# Altium schematic symbol library Capacitors.SchLib: 43 symbols (part 2 of 2)
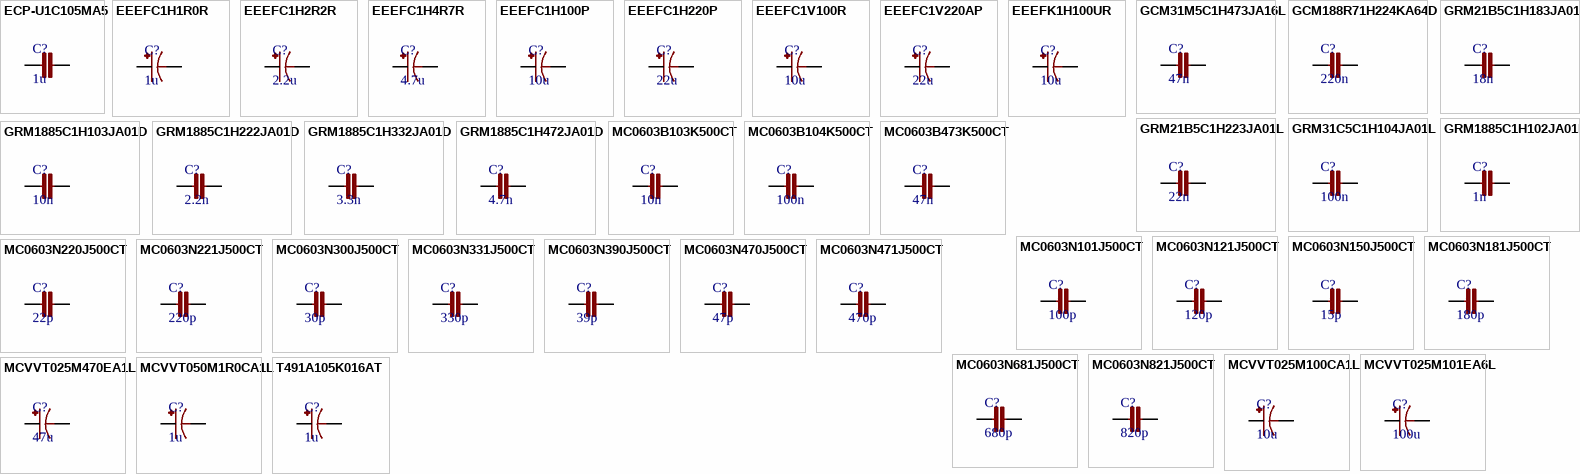
[diagram p2: symbols ECP-U1C105MA5 to T491A105K016AT]

## GRM1885C1H102JA01D
designator C?, comment 1n
CAP CER 1NF 50V C0G/NP0 0603; Manufacturer: Murata; Manufacturer Part Number: GRM1885C1H102JA01D; Material: Ceramic; Tolerance: 5%; Dielectric: C0G; Temperature Coefficient: 30ppm/°C; Insulation Resistance: 10GR; Supplier 1: Farnell; Supplier Part Number 1: 8819920; Stock 1: 138332; Pricing 1: 10 = 0.08650, 100 = 0.03970, 500 = 0.02290, 1000 = 0.01860, 2000 = 0.01690 (EUR); RoHS: Yes; Mount: Surface Mount; Case/Package: 0603; Number of Pins: 2; Case Code (Imperial): 0603; Case Code (Metric): 1608; Dielectric Material: Ceramic; Min Operating Temperature: -55°C; Max Operating Temperature: 125°C; Capacitance: 1nF; Voltage Rating: 50V; Packaging: Tape and Reel; Voltage Rating (DC): 50V; Package Quantity: 1; Termination: SMD/SMT; Voltage: 50V; Length: 1.6mm; Height: 0.8mm; Width: 0.8mm; Thickness: 0.035inch; Depth: 0.8mm; Radiation Hardening: No; REACH SVHC: No SVHC; Lead Free: Lead Free; ComponentLink1URL: https://datasheet.ciiva.com/18184/getdatasheetpartid-153109-18184812.pdf?src-supplier=Verical; ComponentLink1Description: https://datasheet.ciiva.com/18184/getdatasheetpartid-153109-18184812.pdf?src-supplier=Verical; ComponentLink2URL: https://datasheet.ciiva.com/29149/450301-da-01-en-vs-kondensator-0603-29149020.pdf?src-supplier=Conrad; ComponentLink2Description: https://datasheet.ciiva.com/29149/450301-da-01-en-vs-kondensator-0603-29149020.pdf?src-supplier=Conrad; ComponentLink3URL: https://datasheet.ciiva.com/5421/product-5421450.pdf?src-supplier=Mouser; ComponentLink3Description: https://datasheet.ciiva.com/5421/product-5421450.pdf?src-supplier=Mouser; ComponentLink4URL: https://datasheet.ciiva.com/131/partnumbering-e-01-131963.pdf?src-supplier=Digi-Key; ComponentLink4Description: https://datasheet.ciiva.com/131/partnumbering-e-01-131963.pdf?src-supplier=Digi-Key; ComponentLink5URL: https://datasheet.ciiva.com/131/partnumbering-e-01-131964.pdf?src-supplier=Digi-Key; ComponentLink5Description: https://datasheet.ciiva.com/131/partnumbering-e-01-131964.pdf?src-supplier=Digi-Key; ComponentLink6URL: https://datasheet.ciiva.com/6072/4360-6072460.pdf?src-supplier=Farnell; ComponentLink6Description: https://datasheet.ciiva.com/6072/4360-6072460.pdf?src-supplier=Farnell; ComponentLink7URL: https://datasheet.ciiva.com/131/partnumbering-e-01-131965.pdf?src-supplier=Digi-Key; ComponentLink7Description: https://datasheet.ciiva.com/131/partnumbering-e-01-131965.pdf?src-supplier=Digi-Key; ComponentLink8URL: https://datasheet.ciiva.com/7828/1784402-7828893.pdf?src-supplier=Element14; ComponentLink8Description: https://datasheet.ciiva.com/7828/1784402-7828893.pdf?src-supplier=Element14; ComponentLink9URL: https://datasheet.ciiva.com/7828/1784402-7828894.pdf?src-supplier=Element14; ComponentLink9Description: https://datasheet.ciiva.com/7828/1784402-7828894.pdf?src-supplier=Element14; ComponentLink10URL: https://datasheet.ciiva.com/7828/4360-7828895.pdf?src-supplier=Element14; ComponentLink10Description: https://datasheet.ciiva.com/7828/4360-7828895.pdf?src-supplier=Element14; Price: 0.0397
footprint CHIP_0603 (Chip Capacitor, 2-Leads, Body 1.60x0.80mm, IPC Medium Density)
pins: 1, 2

## GRM1885C1H103JA01D
designator C?, comment 10n
CAP CER 10NF 50V C0G/NP0 0603; Manufacturer: Murata; Manufacturer Part Number: GRM1885C1H103JA01D; Material: Ceramic; Tolerance: 5%; Dielectric: C0G; Supplier 1: Farnell; Supplier Part Number 1: 2456107; Stock 1: 99456; Pricing 1: 10 = 0.16600, 100 = 0.07230, 500 = 0.04810, 1000 = 0.04130, 2000 = 0.03640 (EUR); RoHS: Yes; Mount: Surface Mount; Case/Package: 0603; Case Code (Metric): 1608; Case Code (Imperial): 0603; Min Operating Temperature: -55°C; Max Operating Temperature: 125°C; Packaging: Tape and Reel; Package Quantity: 4000; Capacitance: 10nF; Voltage Rating: 50V; Voltage Rating (DC): 50V; Termination: SMD/SMT; Voltage: 50V; Length: 1.6mm; Height: 0.8mm; Width: 0.8mm; Thickness: 0.035inch; Lead Pitch: 0.5mm; Depth: 0.8mm; REACH SVHC: No SVHC; Lead Free: Lead Free; ComponentLink1URL: https://datasheet.ciiva.com/29537/partnumbering-e-01-29537910.pdf?src-supplier=Digi-Key; ComponentLink1Description: https://datasheet.ciiva.com/29537/partnumbering-e-01-29537910.pdf?src-supplier=Digi-Key; ComponentLink2URL: https://datasheet.ciiva.com/41860/partnumbering-e-01-41860759.pdf?src-supplier=Digi-Key; ComponentLink2Description: https://datasheet.ciiva.com/41860/partnumbering-e-01-41860759.pdf?src-supplier=Digi-Key; Price: 0.0723
footprint CHIP_0603 (Chip Capacitor, 2-Leads, Body 1.60x0.80mm, IPC Medium Density)
pins: 1, 2

## GRM1885C1H222JA01D
designator C?, comment 2.2n
CAP CER 2.2NF 50V C0G/NP0 0603; Manufacturer: Murata; Manufacturer Part Number: GRM1885C1H222JA01D; Material: Ceramic; Tolerance: 5%; Dielectric: C0G; Insulation Resistance: 10GR; Temperature Coefficient: 30ppm/°C; Supplier 1: Farnell; Supplier Part Number 1: 8819947; Stock 1: 81117; Pricing 1: 10 = 0.11000, 100 = 0.05180, 500 = 0.04100, 1000 = 0.03510, 2000 = 0.03080 (EUR); RoHS: Yes; Mount: Surface Mount; Case/Package: 0603; Number of Pins: 2; Case Code (Imperial): 0603; Case Code (Metric): 1608; Dielectric Material: Ceramic; Min Operating Temperature: -55°C; Max Operating Temperature: 125°C; Capacitance: 2.2nF; Packaging: Tape and Reel; Voltage Rating: 50V; Voltage Rating (DC): 50V; Package Quantity: 1; Termination: SMD/SMT; Voltage: 50V; Length: 1.6mm; Height: 0.8mm; Width: 0.8mm; Thickness: 0.035inch; Depth: 0.8mm; Radiation Hardening: No; REACH SVHC: No SVHC; Lead Free: Lead Free; ComponentLink1URL: https://datasheet.ciiva.com/11786/0900766b807a1cab-11786840.pdf?src-supplier=RSComponents; ComponentLink1Description: https://datasheet.ciiva.com/11786/0900766b807a1cab-11786840.pdf?src-supplier=RSComponents; ComponentLink2URL: https://datasheet.ciiva.com/3777/1632grm1885c1h222ja0123-3777835.pdf?src-supplier=Arrow; ComponentLink2Description: https://datasheet.ciiva.com/3777/1632grm1885c1h222ja0123-3777835.pdf?src-supplier=Arrow; ComponentLink3URL: https://datasheet.ciiva.com/2989/product-2989459.pdf?src-supplier=Avnet; ComponentLink3Description: https://datasheet.ciiva.com/2989/product-2989459.pdf?src-supplier=Avnet; ComponentLink4URL: https://datasheet.ciiva.com/6031/4360-6031797.pdf?src-supplier=Farnell; ComponentLink4Description: https://datasheet.ciiva.com/6031/4360-6031797.pdf?src-supplier=Farnell; ComponentLink5URL: https://datasheet.ciiva.com/7828/4360-7828918.pdf?src-supplier=Element14; ComponentLink5Description: https://datasheet.ciiva.com/7828/4360-7828918.pdf?src-supplier=Element14; ComponentLink6URL: https://datasheet.ciiva.com/11463/product-11463974.pdf?src-supplier=Avnet; ComponentLink6Description: https://datasheet.ciiva.com/11463/product-11463974.pdf?src-supplier=Avnet; ComponentLink7URL: https://datasheet.ciiva.com/16624/product-16624150.pdf?src-supplier=Avnet+Europe; ComponentLink7Description: https://datasheet.ciiva.com/16624/product-16624150.pdf?src-supplier=Avnet+Europe; ComponentLink8URL: https://datasheet.ciiva.com/7828/1747455-7828919.pdf?src-supplier=Element14; ComponentLink8Description: https://datasheet.ciiva.com/7828/1747455-7828919.pdf?src-supplier=Element14; ComponentLink9URL: https://datasheet.ciiva.com/133/partnumbering-e-01-133576.pdf?src-supplier=Digi-Key; ComponentLink9Description: https://datasheet.ciiva.com/133/partnumbering-e-01-133576.pdf?src-supplier=Digi-Key; ComponentLink10URL: https://datasheet.ciiva.com/7828/1747455-7828920.pdf?src-supplier=Element14; ComponentLink10Description: https://datasheet.ciiva.com/7828/1747455-7828920.pdf?src-supplier=Element14; ComponentLink11URL: https://datasheet.ciiva.com/133/partnumbering-e-01-133577.pdf?src-supplier=Digi-Key; ComponentLink11Description: https://datasheet.ciiva.com/133/partnumbering-e-01-133577.pdf?src-supplier=Digi-Key; ComponentLink12URL: https://datasheet.ciiva.com/133/partnumbering-e-01-133578.pdf?src-supplier=Digi-Key; ComponentLink12Description: https://datasheet.ciiva.com/133/partnumbering-e-01-133578.pdf?src-supplier=Digi-Key; ComponentLink13URL: https://datasheet.ciiva.com/29241/450664-da-01-en-vs-kondensator-0603-29241770.pdf?src-supplier=Conrad; ComponentLink13Description: https://datasheet.ciiva.com/29241/450664-da-01-en-vs-kondensator-0603-29241770.pdf?src-supplier=Conrad; Price: 0.0217
footprint CHIP_0603 (Chip Capacitor, 2-Leads, Body 1.60x0.80mm, IPC Medium Density)
pins: 1, 2

## GRM1885C1H332JA01D
designator C?, comment 3.3n
CAP CER 3.3NF 50V C0G/NP0 0603; Manufacturer: Murata; Manufacturer Part Number: GRM1885C1H332JA01D; Material: Ceramic; Tolerance: 5%; Dielectric: C0G; Supplier 1: Farnell; Supplier Part Number 1: 2470483; Stock: 11093; Pricing: 10=0.141, 100=0.0673, 500=0.038, 1000=0.0309, 2000=0.0305 (EUR); RoHS: Yes; Mount: Surface Mount; Case/Package: 0603; Case Code (Metric): 1608; Case Code (Imperial): 0603; Min Operating Temperature: -55°C; Max Operating Temperature: 125°C; Capacitance: 3.3nF; Voltage Rating: 50V; Packaging: Tape and Reel; Package Quantity: 4000; Termination: SMD/SMT; Voltage: 50V; Voltage Rating (DC): 50V; Length: 1.6mm; Height: 0.8mm; Width: 0.031inch; Thickness: 0.035inch; Depth: 0.8mm; Radiation Hardening: No; REACH SVHC: No SVHC; Lead Free: Lead Free; ComponentLink1URL: https://datasheet.ciiva.com/6270/product-6270530.pdf?src-supplier=Digi-Key; ComponentLink1Description: https://datasheet.ciiva.com/6270/product-6270530.pdf?src-supplier=Digi-Key; ComponentLink2URL: https://datasheet.ciiva.com/29202/450783-da-01-en-vs-kondensator-0603-29202805.pdf?src-supplier=Conrad; ComponentLink2Description: https://datasheet.ciiva.com/29202/450783-da-01-en-vs-kondensator-0603-29202805.pdf?src-supplier=Conrad; ComponentLink3URL: https://datasheet.ciiva.com/5417/product-5417082.pdf?src-supplier=Mouser; ComponentLink3Description: https://datasheet.ciiva.com/5417/product-5417082.pdf?src-supplier=Mouser; Price: 0.0676
footprint CHIP_0603 (Chip Capacitor, 2-Leads, Body 1.60x0.80mm, IPC Medium Density)
pins: 1, 2

## GRM1885C1H472JA01D
designator C?, comment 4.7n
CAP CER 4.7NF 50V C0G/NP0 0603; Manufacturer: Murata; Manufacturer Part Number: GRM1885C1H472JA01D; Material: Ceramic; Tolerance: 5%; Dielectric: C0G; Supplier 1: Farnell; Supplier Part Number 1: 2611918; Stock 1: 86558; Pricing 1: 10 = 0.15000, 100 = 0.07160, 500 = 0.04270, 1000 = 0.03660 (EUR); RoHS: Yes; Mount: Surface Mount; Case/Package: 0603; Case Code (Metric): 1608; Case Code (Imperial): 0603; Min Operating Temperature: -55°C; Max Operating Temperature: 125°C; Packaging: Tape and Reel; Package Quantity: 4000; Capacitance: 4.7nF; Voltage Rating: 50V; Voltage Rating (DC): 50V; Termination: SMD/SMT; Length: 1.6mm; Height: 0.8mm; Width: 0.8mm; Thickness: 0.035inch; REACH SVHC: No SVHC; Lead Free: Lead Free; ComponentLink1URL: https://datasheet.ciiva.com/29537/partnumbering-e-01-29537942.pdf?src-supplier=Digi-Key; ComponentLink1Description: https://datasheet.ciiva.com/29537/partnumbering-e-01-29537942.pdf?src-supplier=Digi-Key; ComponentLink2URL: https://datasheet.ciiva.com/41860/partnumbering-e-01-41860760.pdf?src-supplier=Digi-Key; ComponentLink2Description: https://datasheet.ciiva.com/41860/partnumbering-e-01-41860760.pdf?src-supplier=Digi-Key; Price: 0.0716
footprint CHIP_0603 (Chip Capacitor, 2-Leads, Body 1.60x0.80mm, IPC Medium Density)
pins: 1, 2

## MC0603B103K500CT
designator C?, comment 10n
CAP CER 10NF 50V X7R 0603; Manufacturer: Multicomp; Manufacturer Part Number: MC0603B103K500CT; Tolerance: 10%; Supplier 1: Farnell; Supplier Part Number 1: 1759102; RoHS: Yes; Category: Ceramic Capacitors; Stock 1: 112880; Case/Package: 0603; Number of Pins: 2; Case Code (Metric): 1608; Case Code (Imperial): 0603; Min Operating Temperature: -55°C; Max Operating Temperature: 125°C; Voltage Rating (DC): 50V; Dielectric: X7R; Capacitance: 10nF; Voltage Rating: 50V; Packaging: Tape and Reel; Width: 0.8mm; REACH SVHC: Unknown; ComponentLink1URL: https://datasheet.ciiva.com/22675/1901289-22675356.pdf?src-supplier=Element14; ComponentLink1Description: https://datasheet.ciiva.com/22675/1901289-22675356.pdf?src-supplier=Element14; ComponentLink2URL: https://datasheet.ciiva.com/22675/1901289-22675357.pdf?src-supplier=Element14; ComponentLink2Description: https://datasheet.ciiva.com/22675/1901289-22675357.pdf?src-supplier=Element14; Price: 0.0147
footprint CHIP_0603 (Chip Capacitor, 2-Leads, Body 1.60x0.80mm, IPC Medium Density)
pins: 1, 2

## MC0603B104K500CT
designator C?, comment 100n
CAP CER 100NF 50V X7R 0603; Manufacturer: Multicomp; Manufacturer Part Number: MC0603B104K500CT; Tolerance: 10%; Supplier 1: Farnell; Supplier Part Number 1: 1759122; Stock 1: 1057763; RoHS: Yes; Case/Package: 0603; Number of Pins: 2; Case Code (Metric): 1608; Case Code (Imperial): 0603; Min Operating Temperature: -55°C; Max Operating Temperature: 125°C; Packaging: Cut Tape; Voltage Rating: 50V; Capacitance: 100nF; Dielectric: X7R; Voltage Rating (DC): 50V; REACH SVHC: Unknown; ComponentLink1URL: https://datasheet.ciiva.com/22686/1901289-22686278.pdf?src-supplier=Element14; ComponentLink1Description: https://datasheet.ciiva.com/22686/1901289-22686278.pdf?src-supplier=Element14; ComponentLink2URL: https://datasheet.ciiva.com/22686/1901289-22686279.pdf?src-supplier=Element14; ComponentLink2Description: https://datasheet.ciiva.com/22686/1901289-22686279.pdf?src-supplier=Element14; ComponentLink3URL: https://datasheet.ciiva.com/22648/1901289-22648411.pdf?src-supplier=Element14; ComponentLink3Description: https://datasheet.ciiva.com/22648/1901289-22648411.pdf?src-supplier=Element14; Price: 0.0458
footprint CHIP_0603 (Chip Capacitor, 2-Leads, Body 1.60x0.80mm, IPC Medium Density)
pins: 1, 2

## MC0603B473K500CT
designator C?, comment 47n
CAP CER 47NF 50V X7R 0603; Manufacturer: Multicomp; Manufacturer Part Number: MC0603B473K500CT; Tolerance: 10%; Supplier 1: Farnell; Supplier Part Number 1: 1759116; Stock: 25480; Pricing: 10=0.0277, 100=0.0224, 500=0.0139, 1000=0.011, 2000=0.0101 (EUR); RoHS: Yes; Case/Package: 0603; Number of Pins: 2; Case Code (Metric): 1608; Case Code (Imperial): 0603; Min Operating Temperature: -55°C; Max Operating Temperature: 125°C; Packaging: Cut Tape; Capacitance: 47nF; Voltage Rating: 50V; Dielectric: X7R; Voltage Rating (DC): 50V; REACH SVHC: Unknown; ComponentLink1URL: https://datasheet.ciiva.com/7818/ta-1098-7818535.pdf?src-supplier=Element14; ComponentLink1Description: https://datasheet.ciiva.com/7818/ta-1098-7818535.pdf?src-supplier=Element14; ComponentLink2URL: https://datasheet.ciiva.com/6161/ta-1098-6161001.pdf?src-supplier=Farnell; ComponentLink2Description: https://datasheet.ciiva.com/6161/ta-1098-6161001.pdf?src-supplier=Farnell; ComponentLink3URL: https://datasheet.ciiva.com/22648/1901289-22648457.pdf?src-supplier=Element14; ComponentLink3Description: https://datasheet.ciiva.com/22648/1901289-22648457.pdf?src-supplier=Element14; ComponentLink4URL: https://datasheet.ciiva.com/22648/1901289-22648459.pdf?src-supplier=Element14; ComponentLink4Description: https://datasheet.ciiva.com/22648/1901289-22648459.pdf?src-supplier=Element14; ComponentLink5URL: https://datasheet.ciiva.com/22683/1901289-22683835.pdf?src-supplier=Element14; ComponentLink5Description: https://datasheet.ciiva.com/22683/1901289-22683835.pdf?src-supplier=Element14; Price: 0.0201
footprint CHIP_0603 (Chip Capacitor, 2-Leads, Body 1.60x0.80mm, IPC Medium Density)
pins: 1, 2

## MC0603N101J500CT
designator C?, comment 100p
CAP CER 100PF 50V C0G/NP0 0603; Manufacturer: Multicomp; Manufacturer Part Number: MC0603N101J500CT; Tolerance: 5%; Dielectric: C0G; Supplier 1: Farnell; Supplier Part Number 1: 1759066; Stock: 55061; Pricing: 10=0.0241, 100=0.0195, 500=0.0139, 1000=0.012, 2000=0.0095 (EUR); RoHS: Yes; Case Code (Metric): 1608; Case Code (Imperial): 0603; Min Operating Temperature: -55°C; Max Operating Temperature: 125°C; Voltage Rating: 50V; Packaging: Cut Tape; Capacitance: 100pF; Voltage Rating (DC): 50V; REACH SVHC: No SVHC; ComponentLink1URL: http://www.farnell.com/datasheets/1901289.pdf?src-supplier=Farnell; ComponentLink1Description: http://www.farnell.com/datasheets/1901289.pdf?src-supplier=Farnell; ComponentLink2URL: http://www.farnell.com/datasheets/1901289.pdf?src-supplier=Element14; ComponentLink2Description: http://www.farnell.com/datasheets/1901289.pdf?src-supplier=Element14; ComponentLink3URL: http://www.farnell.com/datasheets/1870456.pdf?src-supplier=Element14; ComponentLink3Description: http://www.farnell.com/datasheets/1870456.pdf?src-supplier=Element14; ComponentLink4URL: http://www.farnell.com/datasheets/1901289.pdf?src-supplier=Newark; ComponentLink4Description: http://www.farnell.com/datasheets/1901289.pdf?src-supplier=Newark; Price: 0.0197
footprint CHIP_0603 (Chip Capacitor, 2-Leads, Body 1.60x0.80mm, IPC Medium Density)
pins: 1, 2

## MC0603N121J500CT
designator C?, comment 120p
CAP CER 120PF 50V C0G/NP0 0603; Manufacturer: Multicomp; Manufacturer Part Number: MC0603N121J500CT; Tolerance: 5%; Dielectric: C0G; Temperature Coefficient: 30ppm/°C; Supplier 1: Farnell; Supplier Part Number 1: 1759067; Stock: 19090; Pricing: 10=0.0363, 100=0.0246, 500=0.0182, 1000=0.0144, 2000=0.0119 (EUR); RoHS: Yes; Case/Package: 0603; Number of Pins: 2; Case Code (Metric): 1608; Case Code (Imperial): 0603; Min Operating Temperature: -55°C; Max Operating Temperature: 125°C; Capacitance: 120pF; Voltage Rating: 50V; Packaging: Cut Tape; Voltage Rating (DC): 50V; Width: 0.8mm; REACH SVHC: Unknown; ComponentLink1URL: https://datasheet.ciiva.com/7751/ta-1098-7751430.pdf?src-supplier=Element14; ComponentLink1Description: https://datasheet.ciiva.com/7751/ta-1098-7751430.pdf?src-supplier=Element14; ComponentLink2URL: https://datasheet.ciiva.com/22648/1901289-22648473.pdf?src-supplier=Element14; ComponentLink2Description: https://datasheet.ciiva.com/22648/1901289-22648473.pdf?src-supplier=Element14; ComponentLink3URL: https://datasheet.ciiva.com/22648/1901289-22648474.pdf?src-supplier=Element14; ComponentLink3Description: https://datasheet.ciiva.com/22648/1901289-22648474.pdf?src-supplier=Element14; ComponentLink4URL: https://datasheet.ciiva.com/41653/ta-1098-41653965.pdf?src-supplier=Farnell; ComponentLink4Description: https://datasheet.ciiva.com/41653/ta-1098-41653965.pdf?src-supplier=Farnell; Price: 0.0246
footprint CHIP_0603 (Chip Capacitor, 2-Leads, Body 1.60x0.80mm, IPC Medium Density)
pins: 1, 2

## MC0603N150J500CT
designator C?, comment 15p
CAP CER 15PF 50V C0G/NP0 0603; Manufacturer: Multicomp; Manufacturer Part Number: MC0603N150J500CT; Tolerance: 5%; Dielectric: C0G; Temperature Coefficient: 30ppm/°C; Supplier 1: Farnell; Supplier Part Number 1: 1759055; RoHS: Yes; Category: Ceramic Capacitors; Stock: 62089; Pricing: 10=0.04660, 100=0.03490, 500=0.02000, 1000=0.01400, 2000=0.01240 (EUR); Case/Package: 0603; Number of Pins: 2; Case Code (Metric): 1608; Case Code (Imperial): 0603; Min Operating Temperature: -55°C; Max Operating Temperature: 125°C; Capacitance: 15pF; Packaging: Tape and Reel; Voltage Rating: 50V; Voltage Rating (DC): 50V; Width: 0.8mm; REACH SVHC: Unknown; ComponentLink1URL: https://datasheet.ciiva.com/22675/1901289-22675815.pdf?src-supplier=Element14; ComponentLink1Description: https://datasheet.ciiva.com/22675/1901289-22675815.pdf?src-supplier=Element14; ComponentLink2URL: https://datasheet.ciiva.com/22675/1901289-22675816.pdf?src-supplier=Element14; ComponentLink2Description: https://datasheet.ciiva.com/22675/1901289-22675816.pdf?src-supplier=Element14; ComponentLink3URL: https://datasheet.ciiva.com/22648/1901289-22648477.pdf?src-supplier=Element14; ComponentLink3Description: https://datasheet.ciiva.com/22648/1901289-22648477.pdf?src-supplier=Element14; Price: 0.0356
footprint CHIP_0603 (Chip Capacitor, 2-Leads, Body 1.60x0.80mm, IPC Medium Density)
pins: 1, 2

## MC0603N181J500CT
designator C?, comment 180p
CAP CER 180PF 50V C0G/NP0 0603; Manufacturer: Multicomp; Manufacturer Part Number: MC0603N181J500CT; Tolerance: 5%; Dielectric: C0G; Temperature Coefficient: 30ppm/°C; Supplier 1: Farnell; Supplier Part Number 1: 1759069; RoHS: Yes; Category: Ceramic Capacitors; Stock: 9384; Pricing: 10=0.05250, 100=0.03150, 500=0.02250, 1000=0.01580, 2000=0.01210 (EUR); Case/Package: 0603; Number of Pins: 2; Case Code (Imperial): 0603; Case Code (Metric): 1608; Min Operating Temperature: -55°C; Max Operating Temperature: 125°C; Capacitance: 180pF; Voltage Rating: 50V; Packaging: Tape and Reel; Voltage Rating (DC): 50V; Width: 0.8mm; REACH SVHC: Unknown; ComponentLink1URL: http://www.farnell.com/datasheets/1901289.pdf?src-supplier=Farnell; ComponentLink1Description: http://www.farnell.com/datasheets/1901289.pdf?src-supplier=Farnell; ComponentLink2URL: http://www.farnell.com/datasheets/1901289.pdf?src-supplier=Element14; ComponentLink2Description: http://www.farnell.com/datasheets/1901289.pdf?src-supplier=Element14
footprint CHIP_0603 (Chip Capacitor, 2-Leads, Body 1.60x0.80mm, IPC Medium Density)
pins: 1, 2

## MC0603N220J500CT
designator C?, comment 22p
CAP CER 22PF 50V C0G/NP0 0603; Manufacturer: Multicomp; Manufacturer Part Number: MC0603N220J500CT; Temperature Coefficient: 30ppm/°C; Dielectric: C0G; Tolerance: 5%; Supplier 1: Farnell; Supplier Part Number 1: 1759057; RoHS: Yes; Category: Ceramic Capacitors; Stock: 53792; Case/Package: 0603; Number of Pins: 2; Case Code (Imperial): 0603; Case Code (Metric): 1608; Min Operating Temperature: -55°C; Max Operating Temperature: 125°C; Voltage Rating (DC): 50V; Capacitance: 22pF; Voltage Rating: 50V; Packaging: Cut Tape; Width: 0.8mm; REACH SVHC: Unknown; ComponentLink1URL: https://datasheet.ciiva.com/22648/1901289-22648486.pdf?src-supplier=Element14; ComponentLink1Description: https://datasheet.ciiva.com/22648/1901289-22648486.pdf?src-supplier=Element14; Price: 0.024
footprint CHIP_0603 (Chip Capacitor, 2-Leads, Body 1.60x0.80mm, IPC Medium Density)
pins: 1, 2

## MC0603N221J500CT
designator C?, comment 220p
CAP CER 220PF 50V C0G/NP0 0603; Manufacturer: Multicomp; Manufacturer Part Number: MC0603N221J500CT; Tolerance: 5%; Dielectric: C0G; Supplier 1: Farnell; Supplier Part Number 1: 1759071; Stock: 17812; Pricing: 10=0.027, 100=0.0219, 500=0.0135, 1000=0.0107, 2000=0.0098 (EUR); RoHS: Yes; Case/Package: 0603; Number of Pins: 2; Case Code (Metric): 1608; Case Code (Imperial): 0603; Min Operating Temperature: -55°C; Max Operating Temperature: 125°C; Capacitance: 220pF; Packaging: Cut Tape; Voltage Rating: 50V; Voltage Rating (DC): 50V; REACH SVHC: Unknown; ComponentLink1URL: https://datasheet.ciiva.com/22648/1901289-22648489.pdf?src-supplier=Element14; ComponentLink1Description: https://datasheet.ciiva.com/22648/1901289-22648489.pdf?src-supplier=Element14; ComponentLink2URL: https://datasheet.ciiva.com/22675/1901289-22675354.pdf?src-supplier=Element14; ComponentLink2Description: https://datasheet.ciiva.com/22675/1901289-22675354.pdf?src-supplier=Element14; ComponentLink3URL: https://datasheet.ciiva.com/22675/1901289-22675355.pdf?src-supplier=Element14; ComponentLink3Description: https://datasheet.ciiva.com/22675/1901289-22675355.pdf?src-supplier=Element14; Price: 0.0192
footprint CHIP_0603 (Chip Capacitor, 2-Leads, Body 1.60x0.80mm, IPC Medium Density)
pins: 1, 2

## MC0603N300J500CT
designator C?, comment 30p
CAP CER 30PF 50V C0G/NP0 0603; Manufacturer: Multicomp; Manufacturer Part Number: MC0603N300J500CT; Dielectric: C0G; Tolerance: 5%; Supplier 1: Farnell; Supplier Part Number 1: 2627466; Stock: 0; Pricing: 10=0.0361, 100=0.0245, 500=0.018, 1000=0.0143, 2000=0.0118 (EUR); RoHS: No; Case Code (Metric): 1608; Case Code (Imperial): 0603; Min Operating Temperature: -55°C; Max Operating Temperature: 125°C; Capacitance: 30pF; Voltage Rating: 50V; Packaging: Cut Tape; Voltage Rating (DC): 50V; REACH SVHC: No SVHC; ComponentLink1URL: http://www.farnell.com/datasheets/2117933.pdf?src-supplier=Farnell; ComponentLink1Description: http://www.farnell.com/datasheets/2117933.pdf?src-supplier=Farnell; ComponentLink2URL: http://www.farnell.com/datasheets/2117933.pdf?src-supplier=Element14; ComponentLink2Description: http://www.farnell.com/datasheets/2117933.pdf?src-supplier=Element14; ComponentLink3URL: http://www.farnell.com/datasheets/2117900.pdf?src-supplier=Element14; ComponentLink3Description: http://www.farnell.com/datasheets/2117900.pdf?src-supplier=Element14; Price: 0.0251
footprint CHIP_0603 (Chip Capacitor, 2-Leads, Body 1.60x0.80mm, IPC Medium Density)
pins: 1, 2

## MC0603N331J500CT
designator C?, comment 330p
CAP CER 330PF 50V C0G/NP0 0603; Manufacturer: Multicomp; Manufacturer Part Number: MC0603N331J500CT; Tolerance: 5%; Temperature Coefficient: 30ppm/°C; Dielectric: C0G; Supplier 1: Farnell; Supplier Part Number 1: 1759076; RoHS: Yes; Category: Ceramic Capacitors; Stock: 24473; Pricing: 10=0.04000, 100=0.03000, 500=0.01710, 1000=0.01200, 2000=0.01110 (EUR); Case/Package: 0603; Number of Pins: 2; Case Code (Metric): 1608; Case Code (Imperial): 0603; Min Operating Temperature: -55°C; Max Operating Temperature: 125°C; Capacitance: 330pF; Voltage Rating: 50V; Packaging: Cut Tape; Voltage Rating (DC): 50V; Width: 0.8mm; REACH SVHC: Unknown; ComponentLink1URL: https://datasheet.ciiva.com/22675/ta-1098-22675385.pdf?src-supplier=Element14; ComponentLink1Description: https://datasheet.ciiva.com/22675/ta-1098-22675385.pdf?src-supplier=Element14; ComponentLink2URL: https://datasheet.ciiva.com/22675/1901289-22675319.pdf?src-supplier=Element14; ComponentLink2Description: https://datasheet.ciiva.com/22675/1901289-22675319.pdf?src-supplier=Element14
footprint CHIP_0603 (Chip Capacitor, 2-Leads, Body 1.60x0.80mm, IPC Medium Density)
pins: 1, 2

## MC0603N390J500CT
designator C?, comment 39p
CAP CER 39PF 50V C0G/NP0 0603; Manufacturer: Multicomp; Manufacturer Part Number: MC0603N390J500CT; Temperature Coefficient: 30ppm/°C; Dielectric: C0G; Tolerance: 5%; Supplier 1: Farnell; Supplier Part Number 1: 1759060; RoHS: Yes; Category: Ceramic Capacitors; Stock: 6461; Pricing: 10=0.03890, 100=0.02920, 500=0.01670, 1000=0.01170, 2000=0.01080 (EUR); Case/Package: 0603; Number of Pins: 2; Case Code (Imperial): 0603; Case Code (Metric): 1608; Min Operating Temperature: -55°C; Max Operating Temperature: 125°C; Capacitance: 39pF; Packaging: Cut Tape; Voltage Rating: 50V; Voltage Rating (DC): 50V; Width: 0.8mm; REACH SVHC: Unknown; ComponentLink1URL: https://datasheet.ciiva.com/22648/1901289-22648501.pdf?src-supplier=Element14; ComponentLink1Description: https://datasheet.ciiva.com/22648/1901289-22648501.pdf?src-supplier=Element14; ComponentLink2URL: https://datasheet.ciiva.com/22675/1901289-22675703.pdf?src-supplier=Element14; ComponentLink2Description: https://datasheet.ciiva.com/22675/1901289-22675703.pdf?src-supplier=Element14
footprint CHIP_0603 (Chip Capacitor, 2-Leads, Body 1.60x0.80mm, IPC Medium Density)
pins: 1, 2

## MC0603N470J500CT
designator C?, comment 47p
CAP CER 47PF 50V C0G/NP0 0603; Manufacturer: Multicomp; Manufacturer Part Number: MC0603N470J500CT; Tolerance: 5%; Dielectric: C0G; Temperature Coefficient: 30ppm/°C; Supplier 1: Farnell; Supplier Part Number 1: 1759062; Stock: 148629; Pricing: 10=0.0246, 100=0.0199, 500=0.0123, 1000=0.0097, 2000=0.0089 (EUR); RoHS: Yes; Case/Package: 0603; Number of Pins: 2; Case Code (Metric): 1608; Case Code (Imperial): 0603; Min Operating Temperature: -55°C; Max Operating Temperature: 125°C; Packaging: Tape and Reel; Voltage Rating: 50V; Capacitance: 47pF; Voltage Rating (DC): 50V; Width: 0.8mm; REACH SVHC: Unknown; ComponentLink1URL: https://datasheet.ciiva.com/22648/1901289-22648503.pdf?src-supplier=Element14; ComponentLink1Description: https://datasheet.ciiva.com/22648/1901289-22648503.pdf?src-supplier=Element14; ComponentLink2URL: https://datasheet.ciiva.com/22682/1901289-22682812.pdf?src-supplier=Element14; ComponentLink2Description: https://datasheet.ciiva.com/22682/1901289-22682812.pdf?src-supplier=Element14; ComponentLink3URL: https://datasheet.ciiva.com/22682/1901289-22682813.pdf?src-supplier=Element14; ComponentLink3Description: https://datasheet.ciiva.com/22682/1901289-22682813.pdf?src-supplier=Element14; Price: 0.02
footprint CHIP_0603 (Chip Capacitor, 2-Leads, Body 1.60x0.80mm, IPC Medium Density)
pins: 1, 2

## MC0603N471J500CT
designator C?, comment 470p
CAP CER 470PF 50V C0G/NP0 0603; Manufacturer: Multicomp; Manufacturer Part Number: MC0603N471J500CT; Tolerance: 5%; Dielectric: C0G; Temperature Coefficient: 30ppm/°C; Supplier 1: Farnell; Supplier Part Number 1: 1759080; Stock: 33267; Pricing: 10=0.0522, 100=0.0354, 500=0.0206, 1000=0.0189, 2000=0.0171 (EUR); RoHS: Yes; Case/Package: 0603; Number of Pins: 2; Case Code (Metric): 1608; Case Code (Imperial): 0603; Min Operating Temperature: -55°C; Max Operating Temperature: 125°C; Capacitance: 470pF; Voltage Rating: 50V; Packaging: Cut Tape; Voltage Rating (DC): 50V; Width: 0.8mm; REACH SVHC: Unknown; ComponentLink1URL: https://datasheet.ciiva.com/22648/1901289-22648504.pdf?src-supplier=Element14; ComponentLink1Description: https://datasheet.ciiva.com/22648/1901289-22648504.pdf?src-supplier=Element14; ComponentLink2URL: https://datasheet.ciiva.com/22675/1901289-22675320.pdf?src-supplier=Element14; ComponentLink2Description: https://datasheet.ciiva.com/22675/1901289-22675320.pdf?src-supplier=Element14; ComponentLink3URL: https://datasheet.ciiva.com/22648/1901289-22648505.pdf?src-supplier=Element14; ComponentLink3Description: https://datasheet.ciiva.com/22648/1901289-22648505.pdf?src-supplier=Element14; Price: 0.035
footprint CHIP_0603 (Chip Capacitor, 2-Leads, Body 1.60x0.80mm, IPC Medium Density)
pins: 1, 2

## MC0603N681J500CT
designator C?, comment 680p
CAP CER 680PF 50V C0G/NP0 0603; Manufacturer: Multicomp; Manufacturer Part Number: MC0603N681J500CT; Tolerance: 5%; Dielectric: C0G; Temperature Coefficient: 30ppm/°C; Supplier 1: Farnell; Supplier Part Number 1: 1759084; Stock: 270; Pricing: 10=0.0543, 100=0.0368, 500=0.0215, 1000=0.0197, 2000=0.0178 (EUR); RoHS: Yes; Case/Package: 0603; Number of Pins: 2; Case Code (Metric): 1608; Case Code (Imperial): 0603; Min Operating Temperature: -55°C; Max Operating Temperature: 125°C; Capacitance: 680pF; Voltage Rating: 50V; Packaging: Cut Tape; Voltage Rating (DC): 50V; Width: 0.8mm; REACH SVHC: Unknown; ComponentLink1URL: http://www.farnell.com/datasheets/1901289.pdf?src-supplier=Farnell; ComponentLink1Description: http://www.farnell.com/datasheets/1901289.pdf?src-supplier=Farnell; ComponentLink2URL: http://www.farnell.com/datasheets/1901289.pdf?src-supplier=Element14; ComponentLink2Description: http://www.farnell.com/datasheets/1901289.pdf?src-supplier=Element14; Price: 0.0248
footprint CHIP_0603 (Chip Capacitor, 2-Leads, Body 1.60x0.80mm, IPC Medium Density)
pins: 1, 2

## MC0603N821J500CT
designator C?, comment 820p
CAP CER 820PF 50V C0G/NP0 0603; Manufacturer: Multicomp; Manufacturer Part Number: MC0603N821J500CT; Temperature Coefficient: 30ppm/°C; Dielectric: C0G; Tolerance: 5%; Supplier 1: Farnell; Supplier Part Number 1: 1759087; RoHS: Yes; Category: Ceramic Capacitors; Stock: 9450; Pricing: 10=0.08560, 100=0.05140, 500=0.02570, 1000=0.02280, 2000=0.01980 (EUR); Case/Package: 0603; Number of Pins: 2; Case Code (Metric): 1608; Case Code (Imperial): 0603; Min Operating Temperature: -55°C; Max Operating Temperature: 125°C; Voltage Rating (DC): 50V; Capacitance: 820pF; Voltage Rating: 50V; Packaging: Tape and Reel; Width: 0.8mm; REACH SVHC: Unknown; ComponentLink1URL: https://datasheet.ciiva.com/22648/1901289-22648517.pdf?src-supplier=Element14; ComponentLink1Description: https://datasheet.ciiva.com/22648/1901289-22648517.pdf?src-supplier=Element14; ComponentLink2URL: https://datasheet.ciiva.com/22648/1901289-22648518.pdf?src-supplier=Element14; ComponentLink2Description: https://datasheet.ciiva.com/22648/1901289-22648518.pdf?src-supplier=Element14; ComponentLink3URL: https://datasheet.ciiva.com/22684/1901289-22684006.pdf?src-supplier=Element14; ComponentLink3Description: https://datasheet.ciiva.com/22684/1901289-22684006.pdf?src-supplier=Element14
footprint CHIP_0603 (Chip Capacitor, 2-Leads, Body 1.60x0.80mm, IPC Medium Density)
pins: 1, 2

## MCVVT025M100CA1L
designator C?, comment 10u
CAP ALUM 10UF 25V SMD; Manufacturer: Multicomp; Manufacturer Part Number: MCVVT025M100CA1L; Life (Hours): 2000Hour; Ripple Current (AC): 4mA; Supplier 1: Farnell; Supplier Part Number 1: 2611368; Stock: 2773; Pricing: 5=0.0897, 50=0.0592, 250=0.0457, 500=0.0388, 1000=0.0338 (EUR); RoHS: No; Min Operating Temperature: -55°C; Max Operating Temperature: 105°C; Capacitance: 10uF; Voltage Rating: 25V; Packaging: Cut Tape; Voltage Rating (DC): 25V; Diameter: 4mm; Height: 5.4mm; REACH SVHC: No SVHC; ComponentLink1URL: http://www.farnell.com/datasheets/2151198.pdf?src-supplier=Element14; ComponentLink1Description: http://www.farnell.com/datasheets/2151198.pdf?src-supplier=Element14; Price: 0.0592
footprint CAPAE_B (Aluminum Electrolytic Capacitor, Body 4.30x4.30x5.40mm, IPC Low Density)
pins: +, -

## MCVVT025M101EA6L
designator C?, comment 100u
CAP ALUM 100UF 25V SMD; Manufacturer: Multicomp; Manufacturer Part Number: MCVVT025M101EA6L; Life (Hours): 2000Hour; Ripple Current (AC): 6.3mA; Supplier 1: Farnell; Supplier Part Number 1: 2611370; Stock: 1063; Pricing: 1=0.157, 50=0.104, 100=0.0932, 250=0.0801, 500=0.0681 (EUR); RoHS: No; Min Operating Temperature: -55°C; Max Operating Temperature: 105°C; Capacitance: 100uF; Voltage Rating: 25V; Packaging: Tape and Reel; Voltage Rating (DC): 25V; Diameter: 6.3mm; Height: 7.7mm; REACH SVHC: No SVHC; ComponentLink1URL: http://www.farnell.com/datasheets/2151198.pdf?src-supplier=Element14; ComponentLink1Description: http://www.farnell.com/datasheets/2151198.pdf?src-supplier=Element14; Price: 0.102
footprint CAPAE_D (Aluminum Electrolytic Capacitor, Body 6.60x6.60x5.40mm, IPC Low Density)
pins: +, -

## MCVVT025M470EA1L
designator C?, comment 47u
CAP ALUM 47UF 25V SMD; Manufacturer: Multicomp; Manufacturer Part Number: MCVVT025M470EA1L; Life (Hours): 2000Hour; Ripple Current (AC): 6.3mA; Supplier 1: Farnell; Supplier Part Number 1: 2611377; Stock: 1436; Pricing: 1=0.125, 50=0.0825, 100=0.0741, 250=0.0637, 500=0.0542 (EUR); RoHS: No; Min Operating Temperature: -55°C; Max Operating Temperature: 105°C; Capacitance: 47uF; Voltage Rating: 25V; Packaging: Cut Tape; Voltage Rating (DC): 25V; Diameter: 6.3mm; Height: 5.4mm; REACH SVHC: No SVHC; ComponentLink1URL: http://www.farnell.com/datasheets/2151198.pdf?src-supplier=Farnell; ComponentLink1Description: http://www.farnell.com/datasheets/2151198.pdf?src-supplier=Farnell; ComponentLink2URL: http://www.farnell.com/datasheets/2151198.pdf?src-supplier=Element14; ComponentLink2Description: http://www.farnell.com/datasheets/2151198.pdf?src-supplier=Element14; Price: 0.0825
footprint CAPAE_D (Aluminum Electrolytic Capacitor, Body 6.60x6.60x5.40mm, IPC Low Density)
pins: +, -

## MCVVT050M1R0CA1L
designator C?, comment 1u
CAP ALUM 1UF 25V SMD; Manufacturer: Multicomp; Manufacturer Part Number: MCVVT050M1R0CA1L; Voltage Rating: 50V; Life (Hours): 2000Hour; Ripple Current (AC): 4mA; Supplier 1: Farnell; Stock 1: 6525; Pricing 1: 5 = 0.08970, 50 = 0.05910, 250 = 0.04570, 500 = 0.03880, 1000 = 0.03380 (EUR); RoHS: No; Min Operating Temperature: -55°C; Max Operating Temperature: 105°C; Capacitance: 1uF; Packaging: Cut Tape; Voltage Rating (DC): 50V; Diameter: 4mm; Height: 5.4mm; REACH SVHC: No SVHC; ComponentLink1URL: http://www.farnell.com/datasheets/2151198.pdf?src-supplier=Element14; ComponentLink1Description: http://www.farnell.com/datasheets/2151198.pdf?src-supplier=Element14; Price: 0.0585
footprint CAPAE_B (Aluminum Electrolytic Capacitor, Body 4.30x4.30x5.40mm, IPC Low Density)
pins: +, -

## T491A105K016AT
designator C?, comment 1u
CAP TANT 1UF 16V; Manufacturer: KEMET; Manufacturer Part Number: T491A105K016AT; Dielectric Material: Tantalum; Tolerance: 20%; ESR (Equivalent Series Resistance): 10R; Life (Hours): 2000Hour; Polarity: Polar; Dissipation Factor: 4%; Leakage Current: 500nA; Ripple Current: 87mA; Supplier 1: Farnell; Supplier Part Number 1: 1457406; RoHS: Yes; Category: Tantalum Capacitors; Stock: 40067; Pricing: 5=0.25600, 50=0.14500, 250=0.11900, 500=0.10600, 1000=0.09590 (EUR); Mount: Surface Mount,PCB; Case/Package: 1206; Number of Pins: 2; Case Code (Imperial): 1206; Case Code (Metric): 3216; Min Operating Temperature: -55°C; Max Operating Temperature: 125°C; Capacitance: 1uF; Packaging: Tape and Reel; Voltage Rating: 16V; Features: General Purpose; Package Quantity: 1; Voltage Rating (DC): 16V; Termination: SMD/SMT; Voltage: 16V; Length: 3.2mm; Height: 1.6mm; Depth: 1.6mm; Width: 1.6mm; Height - Seated (Max): 0.071inch; REACH SVHC: No SVHC; Lead Free: Lead Free; ComponentLink1URL: https://datasheet.ciiva.com/7696/1732736-7696289.pdf?src-supplier=Element14; ComponentLink1Description: https://datasheet.ciiva.com/7696/1732736-7696289.pdf?src-supplier=Element14; ComponentLink2URL: https://datasheet.ciiva.com/20171/458280-da-en-01-20171909.pdf?src-supplier=Rapid+Electronics; ComponentLink2Description: https://datasheet.ciiva.com/20171/458280-da-en-01-20171909.pdf?src-supplier=Rapid+Electronics; ComponentLink3URL: https://datasheet.ciiva.com/34302/1573169-34302502.pdf?src-supplier=Jameco; ComponentLink3Description: https://datasheet.ciiva.com/34302/1573169-34302502.pdf?src-supplier=Jameco; ComponentLink4URL: https://datasheet.ciiva.com/11793/0900766b80718482-11793119.pdf?src-supplier=RSComponents; ComponentLink4Description: https://datasheet.ciiva.com/11793/0900766b80718482-11793119.pdf?src-supplier=RSComponents; ComponentLink5URL: https://datasheet.ciiva.com/5934/kem-t2005-t491-5934792.pdf?src-supplier=Farnell; ComponentLink5Description: https://datasheet.ciiva.com/5934/kem-t2005-t491-5934792.pdf?src-supplier=Farnell; ComponentLink6URL: https://datasheet.ciiva.com/12882/kem-t2005-t491-12882490.pdf?src-supplier=Mouser; ComponentLink6Description: https://datasheet.ciiva.com/12882/kem-t2005-t491-12882490.pdf?src-supplier=Mouser; ComponentLink7URL: https://datasheet.ciiva.com/32431/t491a105k016zt-eng-tds-32431595.pdf?src-supplier=Distrelec; ComponentLink7Description: https://datasheet.ciiva.com/32431/t491a105k016zt-eng-tds-32431595.pdf?src-supplier=Distrelec; ComponentLink8URL: https://datasheet.ciiva.com/257/kem-t2005-t491-257404.pdf?src-supplier=Digi-Key; ComponentLink8Description: https://datasheet.ciiva.com/257/kem-t2005-t491-257404.pdf?src-supplier=Digi-Key; ComponentLink9URL: https://datasheet.ciiva.com/257/kem-t2005-t491-257405.pdf?src-supplier=Digi-Key; ComponentLink9Description: https://datasheet.ciiva.com/257/kem-t2005-t491-257405.pdf?src-supplier=Digi-Key; ComponentLink10URL: https://datasheet.ciiva.com/7696/kem-t2005-t491-7696429.pdf?src-supplier=Element14; ComponentLink10Description: https://datasheet.ciiva.com/7696/kem-t2005-t491-7696429.pdf?src-supplier=Element14; ComponentLink11URL: https://datasheet.ciiva.com/257/kem-t2005-t491-257406.pdf?src-supplier=Digi-Key; ComponentLink11Description: https://datasheet.ciiva.com/257/kem-t2005-t491-257406.pdf?src-supplier=Digi-Key; ComponentLink12URL: https://datasheet.ciiva.com/14595/70095774-14595055.pdf?src-supplier=Allied+Electronics; ComponentLink12Description: https://datasheet.ciiva.com/14595/70095774-14595055.pdf?src-supplier=Allied+Electronics
footprint TAN_1206 (Chip Capacitor, 2-Leads, Body 3.20x1.60mm, IPC Medium Density)
pins: +, -

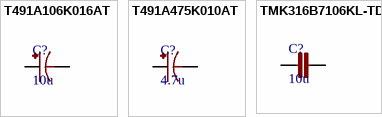
[diagram p1: symbols T491A106K016AT to TMK316B7106KL-TD]

## T491A106K016AT
designator C?, comment 10u
CAP TANT 10UF 16V; Manufacturer: KEMET; Manufacturer Part Number: T491A106K016AT; Dielectric Material: Tantalum; Tolerance: 10%; ESR (Equivalent Series Resistance): 7R; Life (Hours): 2000Hour; Polarity: Polar; Leakage Current: 1.6uA; Ripple Current: 104mA; Supplier 1: Farnell; Supplier Part Number 1: 1457414; RoHS: Yes; Category: Tantalum Capacitors; Stock: 36020; Pricing: 5=0.30300, 50=0.16000, 250=0.13300, 500=0.12000, 1000=0.10200 (EUR); Mount: Surface Mount,PCB; Case/Package: 1206; Number of Pins: 2; Case Code (Metric): 3216; Case Code (Imperial): 1206; Min Operating Temperature: -55°C; Max Operating Temperature: 125°C; Capacitance: 10uF; Packaging: Tape and Reel; Voltage Rating: 16V; Features: General Purpose; Dissipation Factor: 10%; Package Quantity: 1; Voltage Rating (DC): 16V; Termination: SMD/SMT; Failure Rate: 0.001%; Voltage: 16V; Length: 3.2mm; Height: 1.6mm; Width: 1.6mm; Depth: 1.6mm; Height - Seated (Max): 0.071inch; Lead Pitch: 1.2mm; Radiation Hardening: No; Lead Free: Lead Free; REACH SVHC: No SVHC; ComponentLink1URL: https://datasheet.ciiva.com/7696/1732745-7696294.pdf?src-supplier=Element14; ComponentLink1Description: https://datasheet.ciiva.com/7696/1732745-7696294.pdf?src-supplier=Element14; ComponentLink2URL: https://datasheet.ciiva.com/34302/1573257-34302505.pdf?src-supplier=Jameco; ComponentLink2Description: https://datasheet.ciiva.com/34302/1573257-34302505.pdf?src-supplier=Jameco; ComponentLink3URL: https://datasheet.ciiva.com/7696/1854511-7696293.pdf?src-supplier=Element14; ComponentLink3Description: https://datasheet.ciiva.com/7696/1854511-7696293.pdf?src-supplier=Element14; ComponentLink4URL: https://datasheet.ciiva.com/14586/70095774-14586694.pdf?src-supplier=Allied+Electronics; ComponentLink4Description: https://datasheet.ciiva.com/14586/70095774-14586694.pdf?src-supplier=Allied+Electronics; ComponentLink5URL: https://datasheet.ciiva.com/6248/kem-t2005-t491-6248087.pdf?src-supplier=Digi-Key; ComponentLink5Description: https://datasheet.ciiva.com/6248/kem-t2005-t491-6248087.pdf?src-supplier=Digi-Key; ComponentLink6URL: https://datasheet.ciiva.com/6248/kem-t2005-t491-6248088.pdf?src-supplier=Digi-Key; ComponentLink6Description: https://datasheet.ciiva.com/6248/kem-t2005-t491-6248088.pdf?src-supplier=Digi-Key; ComponentLink7URL: https://datasheet.ciiva.com/14113/t491serie-eng-tds-14113132.pdf?src-supplier=Distrelec; ComponentLink7Description: https://datasheet.ciiva.com/14113/t491serie-eng-tds-14113132.pdf?src-supplier=Distrelec; ComponentLink8URL: https://datasheet.ciiva.com/7696/1923792-7696431.pdf?src-supplier=Element14; ComponentLink8Description: https://datasheet.ciiva.com/7696/1923792-7696431.pdf?src-supplier=Element14; ComponentLink9URL: https://datasheet.ciiva.com/7696/1854511-7696295.pdf?src-supplier=Element14; ComponentLink9Description: https://datasheet.ciiva.com/7696/1854511-7696295.pdf?src-supplier=Element14; ComponentLink10URL: https://datasheet.ciiva.com/14605/70095774-14605543.pdf?src-supplier=Allied+Electronics; ComponentLink10Description: https://datasheet.ciiva.com/14605/70095774-14605543.pdf?src-supplier=Allied+Electronics; ComponentLink11URL: https://datasheet.ciiva.com/7696/1446014-7696296.pdf?src-supplier=Element14; ComponentLink11Description: https://datasheet.ciiva.com/7696/1446014-7696296.pdf?src-supplier=Element14; ComponentLink12URL: https://datasheet.ciiva.com/6248/kem-t2005-t491-6248089.pdf?src-supplier=Digi-Key; ComponentLink12Description: https://datasheet.ciiva.com/6248/kem-t2005-t491-6248089.pdf?src-supplier=Digi-Key; ComponentLink13URL: https://datasheet.ciiva.com/12882/kem-t2005-t491-12882730.pdf?src-supplier=Mouser; ComponentLink13Description: https://datasheet.ciiva.com/12882/kem-t2005-t491-12882730.pdf?src-supplier=Mouser; ComponentLink14URL: https://datasheet.ciiva.com/39123/kem-t2005-t491-39123278.pdf?src-supplier=Onlinecomponents.com; ComponentLink14Description: https://datasheet.ciiva.com/39123/kem-t2005-t491-39123278.pdf?src-supplier=Onlinecomponents.com; ComponentLink15URL: https://datasheet.ciiva.com/29244/458306-da-01-de-kondensator-10uf-3216-10pr-16v-85c-29244588.pdf?src-supplier=Conrad; ComponentLink15Description: https://datasheet.ciiva.com/29244/458306-da-01-de-kondensator-10uf-3216-10pr-16v-85c-29244588.pdf?src-supplier=Conrad; Price: 0.159
footprint TAN_1206 (Chip Capacitor, 2-Leads, Body 3.20x1.60mm, IPC Medium Density)
pins: +, -

## T491A475K010AT
designator C?, comment 4.7u
CAP TANT 4.7UF 10V; Manufacturer: KEMET; Manufacturer Part Number: T491A475K010AT; Dielectric Material: Tantalum; Tolerance: 20%; ESR (Equivalent Series Resistance): 5R; Life (Hours): 2000Hour; Leakage Current: 500nA; Dissipation Factor: 6%; Polarity: Polar; Ripple Current: 122mA; Supplier 1: Farnell; Supplier Part Number 1: 1457427; RoHS: Yes; Category: Tantalum Capacitors; Stock 1: 5135; Mount: Surface Mount,PCB; Case/Package: 1206; Number of Pins: 2; Case Code (Metric): 3216; Case Code (Imperial): 1206; Min Operating Temperature: -55°C; Max Operating Temperature: 125°C; Capacitance: 4.7uF; Packaging: Tape and Reel; Voltage Rating: 10V; Features: General Purpose; Termination: SMD/SMT; Voltage Rating (DC): 10V; Voltage: 10V; Package Quantity: 1; Length: 3.2mm; Height: 1.6mm; Depth: 1.6mm; Width: 1.6mm; Height - Seated (Max): 0.071inch; Lead Pitch: 1.2mm; Radiation Hardening: No; Lead Free: Lead Free; REACH SVHC: No SVHC; ComponentLink1URL: https://datasheet.ciiva.com/257/kem-t2005-t491-257408.pdf?src-supplier=Digi-Key; ComponentLink1Description: https://datasheet.ciiva.com/257/kem-t2005-t491-257408.pdf?src-supplier=Digi-Key; ComponentLink2URL: https://datasheet.ciiva.com/7668/1732747-7668019.pdf?src-supplier=Element14; ComponentLink2Description: https://datasheet.ciiva.com/7668/1732747-7668019.pdf?src-supplier=Element14; ComponentLink3URL: https://datasheet.ciiva.com/27052/1573417-27052564.pdf?src-supplier=Jameco; ComponentLink3Description: https://datasheet.ciiva.com/27052/1573417-27052564.pdf?src-supplier=Jameco; ComponentLink4URL: https://datasheet.ciiva.com/14589/70095774-14589016.pdf?src-supplier=Allied+Electronics; ComponentLink4Description: https://datasheet.ciiva.com/14589/70095774-14589016.pdf?src-supplier=Allied+Electronics; ComponentLink5URL: https://datasheet.ciiva.com/257/kem-t2005-t491-257409.pdf?src-supplier=Digi-Key; ComponentLink5Description: https://datasheet.ciiva.com/257/kem-t2005-t491-257409.pdf?src-supplier=Digi-Key; ComponentLink6URL: https://datasheet.ciiva.com/7668/1446014-7668021.pdf?src-supplier=Element14; ComponentLink6Description: https://datasheet.ciiva.com/7668/1446014-7668021.pdf?src-supplier=Element14; ComponentLink7URL: https://datasheet.ciiva.com/14588/70095774-14588348.pdf?src-supplier=Allied+Electronics; ComponentLink7Description: https://datasheet.ciiva.com/14588/70095774-14588348.pdf?src-supplier=Allied+Electronics; ComponentLink8URL: https://datasheet.ciiva.com/257/kem-t2005-t491-257407.pdf?src-supplier=Digi-Key; ComponentLink8Description: https://datasheet.ciiva.com/257/kem-t2005-t491-257407.pdf?src-supplier=Digi-Key; Price: 0.189
footprint TAN_1206 (Chip Capacitor, 2-Leads, Body 3.20x1.60mm, IPC Medium Density)
pins: +, -

## TMK316B7106KL-TD
designator C?, comment 10u
CAP CER 10uF 25V X7R 1206; Manufacturer: Taiyo Yuden; Manufacturer Part Number: TMK316B7106KL-TD; Description: TAIYO YUDEN - TMK316B7106KL-TD - SMD Multilayer Ceramic Capacitor, 10 µF, 25 V, 1206 [3216 Metric], ± 10%, X7R, M Series; Tolerance: 10%; Supplier 1: Farnell; Supplier Part Number 1: 2113073; RoHS: Yes; Category: Ceramic Capacitors; Stock: 588931; Mount: Surface Mount; Case/Package: 1206; Number of Pins: 2; Case Code (Imperial): 1206; Case Code (Metric): 3216; Weight: 0.000571oz; Min Operating Temperature: -55°C; Max Operating Temperature: 125°C; Capacitance: 10uF; Voltage Rating: 25V; Packaging: Tape and Reel; Dielectric: X7R; Voltage Rating (DC): 25V; Package Quantity: 1; Termination: SMD/SMT; Resistor Type: Ceramic; Length: 0.126inch; Width: 1.6mm; Height: 1.6mm; Thickness: 0.071inch; REACH SVHC: Unknown; ComponentLink1URL: https://datasheet.ciiva.com/15922/582tmk316ab7106kl-t-15922403.pdf?src-supplier=Onlinecomponents.com; ComponentLink1Description: https://datasheet.ciiva.com/15922/582tmk316ab7106kl-t-15922403.pdf?src-supplier=Onlinecomponents.com; ComponentLink2URL: https://datasheet.ciiva.com/7975/1784422-7975593.pdf?src-supplier=Element14; ComponentLink2Description: https://datasheet.ciiva.com/7975/1784422-7975593.pdf?src-supplier=Element14; ComponentLink3URL: https://datasheet.ciiva.com/30123/25tmk316ab7106kl-t-30123726.pdf?src-supplier=Onlinecomponents.com; ComponentLink3Description: https://datasheet.ciiva.com/30123/25tmk316ab7106kl-t-30123726.pdf?src-supplier=Onlinecomponents.com; ComponentLink4URL: https://datasheet.ciiva.com/7975/mlcc-all-e-7975834.pdf?src-supplier=Element14; ComponentLink4Description: https://datasheet.ciiva.com/7975/mlcc-all-e-7975834.pdf?src-supplier=Element14; ComponentLink5URL: https://datasheet.ciiva.com/139/mlcc-all-e-139531.pdf?src-supplier=Digi-Key; ComponentLink5Description: https://datasheet.ciiva.com/139/mlcc-all-e-139531.pdf?src-supplier=Digi-Key; ComponentLink6URL: https://datasheet.ciiva.com/22748/1481447-22748971.pdf?src-supplier=Element14; ComponentLink6Description: https://datasheet.ciiva.com/22748/1481447-22748971.pdf?src-supplier=Element14; ComponentLink7URL: https://datasheet.ciiva.com/139/mlcc-all-e-139532.pdf?src-supplier=Digi-Key; ComponentLink7Description: https://datasheet.ciiva.com/139/mlcc-all-e-139532.pdf?src-supplier=Digi-Key; ComponentLink8URL: https://datasheet.ciiva.com/139/mlcc-all-e-139533.pdf?src-supplier=Digi-Key; ComponentLink8Description: https://datasheet.ciiva.com/139/mlcc-all-e-139533.pdf?src-supplier=Digi-Key; Price: 0.149
footprint CHIP_1206 (Chip Capacitor, 2-Leads, Body 3.20x1.60mm, IPC Medium Density)
pins: 1, 2